# EAGLE library part A4984 (library alegro3)
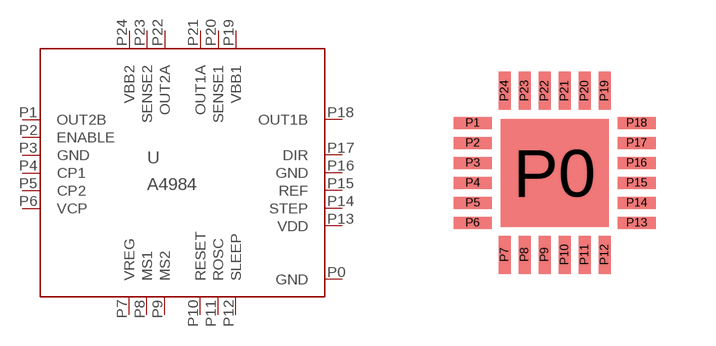
[diagram p11: symbol with the pads of QFN24ES; footprint QFN24ES]

Designator prefix -

## A4984  [QFN24ES]
P0  GND
P1  OUT2B  out
P2  ENABLE  in
P3  GND  pwr
P4  CP1  pas
P5  CP2  pas
P6  VCP  pas
P7  VREG  pas
P8  MS1  in
P9  MS2  in
P10  RESET  in
P11  ROSC  in
P12  SLEEP  in
P13  VDD  pwr
P14  STEP  in
P15  REF  in
P16  GND  pwr
P17  DIR  in
P18  OUT1B  out
P19  VBB1  pwr
P20  SENSE1  in
P21  OUT1A  out
P22  OUT2A  out
P23  SENSE2  in
P24  VBB2  pwr

## Footprint QFN24ES (pad centres in mm)
smd 2.7 x 2.7: P0 -0.015,-0.015
smd 0.95 x 0.3: P1 -2.065,1.235; P2 -2.065,0.735; P3 -2.065,0.235; P4 -2.065,-0.265; P5 -2.065,-0.765; P6 -2.065,-1.265; P13 2.035,-1.265; P14 2.035,-0.765; P15 2.035,-0.265; P16 2.035,0.235; P17 2.035,0.735; P18 2.035,1.235
smd 0.3 x 0.95: P7 -1.265,-2.065; P8 -0.765,-2.065; P9 -0.265,-2.065; P10 0.235,-2.065; P11 0.735,-2.065; P12 1.235,-2.065; P19 1.235,2.035; P20 0.735,2.035; P21 0.235,2.035; P22 -0.265,2.035; P23 -0.765,2.035; P24 -1.265,2.035